# EAGLE library part PMM-3738-VM1010-R (library MIC)
PUI Audio - PMM-3738-VM1010-R Datasheet <http://www.puiaudio.com/pdf/PMM-3738-VM1010-R.pdf>
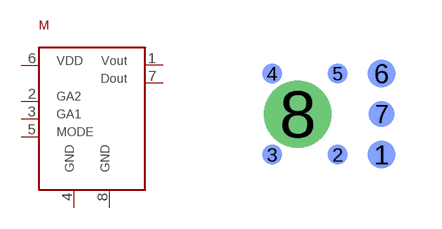
[diagram p0: symbol with the pads of PMM-3738-VM1010-R; footprint PMM-3738-VM1010-R]

Designator prefix M

## PMM-3738-VM1010-R  [PMM-3738-VM1010-R]
1  P$1
2  P$2
3  P$3
4  P$4
5  P$5
6  P$6
7  P$7
8  P$8

## Footprint PMM-3738-VM1010-R (pad centres in mm)
PUI Audio - PMM-3738-VM1010-R Datasheet <http://www.puiaudio.com/pdf/PMM-3738-VM1010-R.pdf>
smd 0.7 x 0.7 bottom: 1 2.1,-1.015; 6 2.1,1.015
smd 0.5 x 0.5 bottom: 2 1,-1.015; 3 -0.64,-1.015; 4 -0.64,1.015; 5 1,1.015
smd 0.65 x 0.65 bottom: 7 2.1,0
drill 0.96 pad 1.68: 8 0,0